# Altium footprint library pira-smart-pcblib.PcbLib: 19 footprints (part 1 of 2)
Each footprint in its own frame and in the unit in brackets; x right, y up, seen from the top. Pads: shape width x height; smd on the part's side, far side on the other; paste and mask are expansions set on the pad; w line width, h text height; cw(c..) or ccw(c..) is an arc to the next point about the centre after c.
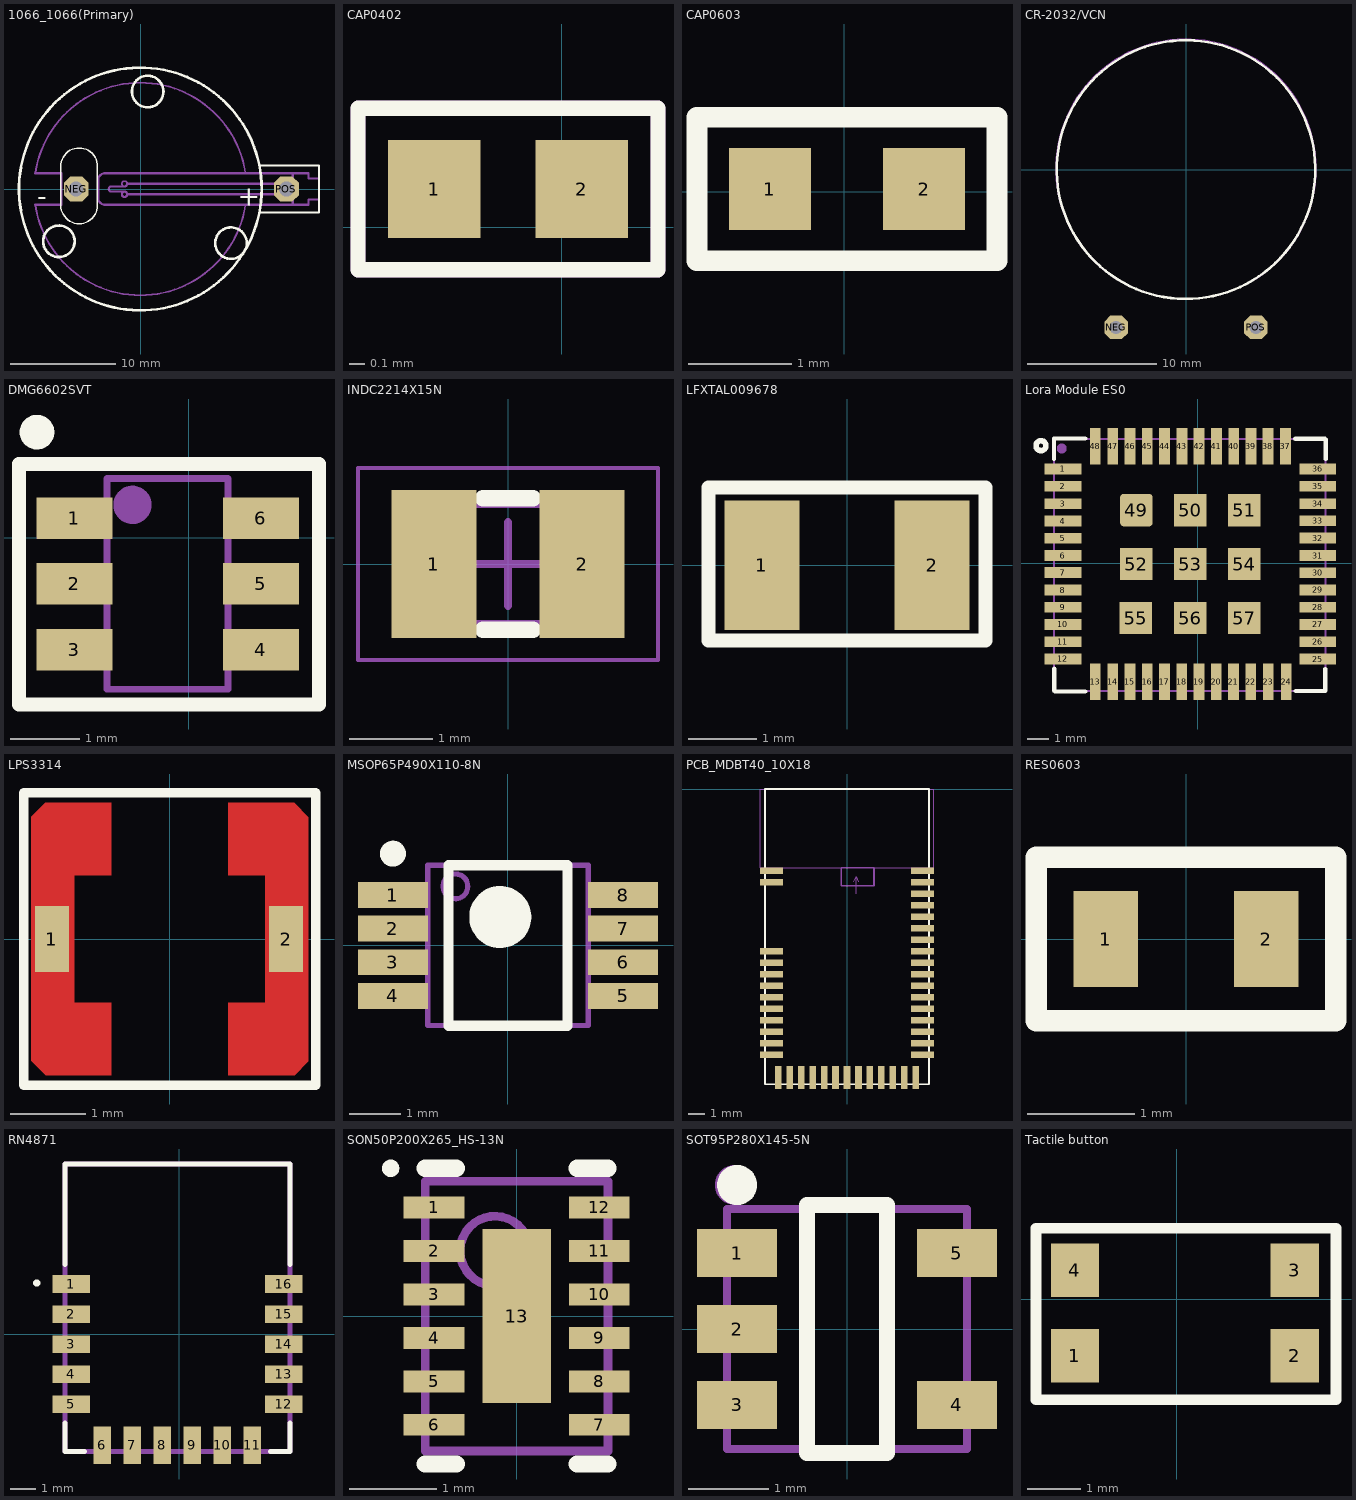
[diagram p0: the footprints below, top view; thin cyan lines are the x and y axes]

## 1066_1066(Primary) [mm]
pads (2):
  oct 2.35x2.35 hole 1.422: NEG(-6.125,0) POS(13.875,0)
Top Overlay:
  circle w0.254: c-0.025,0 r11.543
  circle w0.254: c0.675,9.275 r1.5
  circle w0.254: c-7.775,-4.975 r1.5
  circle w0.254: c8.6,-5.15 r1.5
  lines w0.127: -7.6,-1.75 -7.6,2.15 cw(c-5.85,2.15) -4.1,2.15 -4.1,-1.775 ; -7.6,-1.55 ccw(c-5.85,-1.55) -4.1,-1.55
  lines w0.203: 11.475,-2.23 16.975,-2.23 16.975,2.23 11.475,2.23
  text "-" at -9.816,-1.598 h1.88
  text "+" at 9.256,-1.597 h1.88
Mechanical 1:
  circle w0.203: c-1.529,-0.502 r0.254
  circle w0.127: c-1.529,0.502 r0.254
  lines w0.127: -3.025,-0.004 -3.025,0.004 ; -1.275,-0.504 -1.275,-0.5
  lines w0.178: -10.012,-1.582 ccw(c-0.025,0) 9.962,-1.582 ; -10.012,1.582 cw(c-0.025,0) 9.962,1.582
  lines w0.203: -10.025,-1.5 -7.525,-1.5 -7.525,1.5 -10.025,1.5 ; -3.025,-0.004 cw(c-2.771,-0.004) -2.771,0.25 -1.529,0.25 ccw(c-1.529,0.504) -1.275,0.5 ; -3.025,0.004 ccw(c-2.771,0.004) -2.771,-0.25 -1.529,-0.25 cw(c-1.529,-0.504) -1.275,-0.5 ; -1.275,-0.5 14.475,-0.5 ; -1.275,0.504 -1.275,0.5 14.475,0.5 ; 16.975,-1 15.975,-1 15.975,-1.5 14.475,-1.5 ; 16.975,1 15.975,1 15.975,1.5 14.475,1.5 ; 14.475,-1.5 9.975,-1.5 -3.39,-1.5 cw(c-3.39,-0.865) -4.025,-0.865 -4.025,0.865 cw(c-3.39,0.865) -3.39,1.5 9.975,1.5 14.475,1.5 ; 14.475,-1.5 14.475,-0.5 ; 14.475,-0.5 14.475,0.5 ; 14.475,0.5 14.475,1.5

## CAP0402 [mm]
pads (2):
  rect 0.6x0.64 smd: 1(-0.83,0.25) 2(0.13,0.25)
Top Overlay:
  lines w0.1: -1.325,-0.275 0.625,-0.275 0.625,0.775 -1.325,0.775 -1.325,-0.275
Mechanical 29:
  lines w0.1: -1.325,-0.275 -1.325,0.775 0.625,0.775 0.625,-0.275 -1.325,-0.275
  text "'.Designator'" at -1.05,-0.075 h0.6
3D body "CAPC1005X05N.step": height 0.45, standoff 0, extent -0.9,-0.05 0.2,0.55

## CAP0603 [mm]
pads (2):
  rect 0.8x0.8 smd: 1(-0.725,0.025) 2(0.775,0.025)
Top Overlay:
  lines w0.2: -1.435,-0.673 1.486,-0.673 1.486,0.724 -1.435,0.724 -1.435,-0.673
Mechanical 29:
  lines w0.1: -1.435,-0.673 -1.435,0.724 1.486,0.724 1.486,-0.673 -1.435,-0.673
  text ".Designator" at -0.927,-0.229 h0.6
3D body "C_SMD_0603.step": height 0.9, standoff 0, extent -0.775,-0.375 0.825,0.425

## CR-2032/VCN [mm]
pads (2):
  oct 1.8x1.8 hole 1: NEG(-5.4,-12.2) POS(5.4,-12.2)
Top Overlay:
  lines w0.2: 9.999,0.198 cw(c0,0) 9.999,0.2
Mechanical 29:
  circle w0.1: c0,0.05 r10.05
  text "'.Designator'" at -8,-0.2 h1.52
3D body "User Library-CR2032-VCN.STEP": height 4.12, standoff 0.07, extent -9.96,-16.37 10.06,10.15

## DMG6602SVT [mm]
pads (6):
  rect 1.1x0.6 smd: 1(-1.655,0.28) 2(-1.655,-0.67) 3(-1.655,-1.62) 4(1.045,-1.62) 5(1.045,-0.67) 6(1.045,0.28)
Top Overlay:
  circle w0.25: c-2.195,1.525 r0.125
  lines w0.2: -2.455,-2.415 1.885,-2.415 1.885,1.065 -2.455,1.065 -2.455,-2.415
Mechanical 29:
  circle w0.3: c-0.813,0.473 r0.127
  lines w0.1: -1.18,-2.195 -1.18,0.855 0.57,0.855 0.57,-2.195 -1.18,-2.195
  text ".Designator" at 0.203,-1.813 h0.8
3D body "TSOT26.step": height 1, standoff 0, extent -1.805,-2.22 1.195,0.88

## INDC2214X15N [mm] "Chip Inductor, 2-Leads, Body 2.20x1.45mm, IPC Medium Density"
height 1.5
pads (2):
  rect 1.02x1.78 smd: 1(-0.89,0) 2(0.89,0)
Top Overlay:
  lines w0.2: -0.3,-0.79 0.3,-0.79 ; -0.3,0.79 0.3,0.79
Mechanical 15:
  lines w0.05: -1.8,-1.15 1.8,-1.15 1.8,1.15 -1.8,1.15 -1.8,-1.15
  lines w0.1: -0.5,0 0.5,0 ; 0,-0.5 0,0.5
Mechanical 29:
  lines w0.1: -1.1,-0.725 1.1,-0.725 1.1,0.725 -1.1,0.725 -1.1,-0.725
  text "'.Designator'" at -1,-0.25 h0.5
3D body "Coilcraft-PFL2015.STEP": height 1.49, standoff -0.01, extent -1.1,-0.725 1.1,0.725

## LFXTAL009678 [mm]
pads (2):
  rect 1.1x1.9 smd: 1(-1.25,0) 2(1.25,0)
Top Overlay:
  lines w0.2: -2.032,-1.1 2.032,-1.1 2.032,1.143 -2.032,1.143 -2.032,-1.1
Mechanical 29:
  lines w0.1: -2.032,-1.1 2.032,-1.1 2.032,1.1 -2.032,1.1 -2.032,-1.1
  text ".Designator" at -1.3,-0.5 h1.1
3D body: height 0.9, standoff 0, extent -1.651,-0.889 1.651,0.889

## Lora Module ES0 [mm]
pads (57):
  rect 1.7x0.5 smd paste-5: 1(-6.24,4.375) 2(-6.24,3.575) 3(-6.24,2.765) 4(-6.24,1.965) 5(-6.24,1.165) 6(-6.24,0.365) 7(-6.24,-0.425) 8(-6.24,-1.235) 9(-6.24,-2.035) 10(-6.24,-2.825) 11(-6.24,-3.635) 12(-6.24,-4.425) 25(5.562,-4.43) 26(5.562,-3.629) 27(5.562,-2.827) 28(5.562,-2.03) 29(5.562,-1.23) 30(5.562,-0.43) 31(5.56,0.365) 32(5.56,1.175) 33(5.56,1.975) 34(5.56,2.765) 35(5.56,3.575) 36(5.56,4.375)
  rect 0.5x1.7 smd paste-5: 13(-4.74,-5.48) 14(-3.938,-5.48) 15(-3.138,-5.48) 16(-2.338,-5.48) 17(-1.538,-5.48) 18(-0.738,-5.48) 19(0.062,-5.48) 20(0.862,-5.479) 21(1.662,-5.479) 22(2.462,-5.48) 23(3.269,-5.48) 24(4.11,-5.48) 37(4.07,5.425) 38(3.26,5.425) 39(2.47,5.425) 40(1.67,5.425) 41(0.87,5.425) 42(0.07,5.425) 43(-0.73,5.425) 44(-1.53,5.425) 45(-2.33,5.425) 46(-3.13,5.425) 47(-3.93,5.425) 48(-4.74,5.425)
  rrect20% 1.5x1.5 smd: 49(-2.838,2.47)
  rect 1.5x1.5 smd: 50(-0.338,2.47) 51(2.162,2.47) 52(-2.838,-0.03) 53(-0.338,-0.03) 54(2.162,-0.03) 55(-2.863,-2.53) 56(-0.338,-2.53) 57(2.162,-2.53)
Top Overlay:
  circle w0.254: c-7.26,5.455 r0.23
  lines w0.2: -6.66,4.835 -6.66,5.775 -6.65,5.785 -5.21,5.785 ; -6.65,-4.885 -6.65,-5.895 -6.61,-5.935 -5.21,-5.935 ; 4.53,5.775 5.9,5.775 5.93,5.745 5.93,4.835 ; 4.55,-5.915 5.9,-5.915 5.92,-5.895 5.92,-4.895
Top Paste:
  rectangle: -6.35,4.125 -5.39,4.625
  rectangle: -6.35,3.335 -5.4,3.825
  rectangle: -6.35,2.525 -5.4,3.015
  rectangle: -6.35,1.725 -5.4,2.215
  rectangle: -6.35,0.925 -5.4,1.415
  rectangle: -6.35,0.125 -5.4,0.615
  rectangle: -6.35,-0.675 -5.4,-0.185
  rectangle: -6.35,-1.475 -5.4,-0.985
  rectangle: -6.35,-2.275 -5.4,-1.785
  rectangle: -6.35,-3.075 -5.4,-2.585
  rectangle: -6.35,-3.875 -5.4,-3.385
  rectangle: -6.35,-4.675 -5.4,-4.185
  region: -4.5,-5.585 -4.5,-4.635 -4.99,-4.635 -4.99,-5.585
  region: -3.7,-5.585 -3.7,-4.635 -4.19,-4.635 -4.19,-5.585
  region: -2.89,-5.585 -2.89,-4.635 -3.38,-4.635 -3.38,-5.585
  region: -2.09,-5.585 -2.09,-4.635 -2.58,-4.635 -2.58,-5.585
  region: -1.3,-5.585 -1.3,-4.635 -1.79,-4.635 -1.79,-5.585
  region: -0.5,-5.585 -0.5,-4.635 -0.99,-4.635 -0.99,-5.585
  region: 0.3,-5.585 0.3,-4.635 -0.19,-4.635 -0.19,-5.585
  region: 1.1,-5.585 1.1,-4.635 0.61,-4.635 0.61,-5.585
  region: 1.9,-5.585 1.9,-4.635 1.41,-4.635 1.41,-5.585
  region: 2.7,-5.585 2.7,-4.635 2.21,-4.635 2.21,-5.585
  region: 3.51,-5.585 3.51,-4.635 3.02,-4.635 3.02,-5.585
  region: 4.35,-5.585 4.35,-4.635 3.86,-4.635 3.86,-5.585
  rectangle: 4.71,4.115 5.67,4.615
  rectangle: 4.71,3.315 5.67,3.815
  rectangle: 4.71,2.515 5.67,3.015
  rectangle: 4.71,1.715 5.67,2.215
  rectangle: 4.71,0.915 5.67,1.415
  rectangle: 4.71,0.115 5.67,0.615
  rectangle: 4.71,-0.685 5.67,-0.185
  rectangle: 4.71,-1.485 5.67,-0.985
  rectangle: 4.71,-2.285 5.67,-1.785
  rectangle: 4.71,-3.085 5.67,-2.585
  rectangle: 4.71,-3.885 5.67,-3.385
  rectangle: 4.71,-4.685 5.67,-4.185
  region: -4.5,4.575 -4.5,5.525 -4.99,5.525 -4.99,4.575
  region: -3.69,4.585 -3.69,5.535 -4.18,5.535 -4.18,4.585
  region: -2.89,4.585 -2.89,5.535 -3.38,5.535 -3.38,4.585
  region: -2.09,4.585 -2.09,5.535 -2.58,5.535 -2.58,4.585
  region: -1.29,4.585 -1.29,5.535 -1.78,5.535 -1.78,4.585
  region: -0.5,4.585 -0.5,5.535 -0.99,5.535 -0.99,4.585
  region: 0.3,4.585 0.3,5.535 -0.19,5.535 -0.19,4.585
  region: 1.1,4.585 1.1,5.535 0.61,5.535 0.61,4.585
  region: 1.9,4.585 1.9,5.535 1.41,5.535 1.41,4.585
  region: 2.7,4.585 2.7,5.535 2.21,5.535 2.21,4.585
  region: 3.5,4.585 3.5,5.535 3.01,5.535 3.01,4.585
  region: 4.31,4.585 4.31,5.535 3.82,5.535 3.82,4.585
Mechanical 29:
  circle w0.254: c-6.3,5.325 r0.1
  lines w0.1: -6.65,-5.917 -6.65,5.767 5.923,5.767 5.923,-5.917 -6.65,-5.917
  text "'.Designator'" at -4.364,0.179 h1
3D body "CMWX1ZZABZ.STEP": height 1.76, standoff 0, extent -6.63,-5.875 5.87,5.725

## LPS3314 [mm]
pads (2):
  rect 0.45x0.881 smd: 1(-1.575,0) 2(1.55,0)
Top Layer:
  region: -1.85,-1.625 -1.85,1.634 -1.666,1.818 -0.781,1.818 -0.781,0.85 -1.275,0.85 -1.275,-0.85 -0.781,-0.85 -0.781,-1.818 -1.657,-1.818
  region: 0.781,-1.818 0.781,-0.85 1.275,-0.85 1.275,0.85 0.781,0.85 0.781,1.818 1.657,1.818 1.85,1.625 1.85,-1.634 1.666,-1.818
Top Overlay:
  lines w0.127: -1.95,-1.95 -1.95,1.95 1.95,1.95 1.95,-1.95 -1.95,-1.95
3D body "Coilcraft-LPS3314.STEP": height 1.4, standoff 0, extent -1.7,-1.7 1.7,1.7

## MSOP65P490X110-8N [mm] "TSOP, 8-Leads, Body 3.00x3.00mm, Pitch 0.65mm, IPC Medium Density"
height 1.1
pads (8):
  rect 1.35x0.5 smd: 1(-2.225,0.975) 2(-2.225,0.325) 3(-2.225,-0.325) 4(-2.225,-0.975) 5(2.225,-0.975) 6(2.225,-0.325) 7(2.225,0.325) 8(2.225,0.975)
Top Overlay:
  circle w0.6: c-0.15,0.55 r0.3
  circle w0.25: c-2.225,1.775 r0.125
  lines w0.2: -1.15,-1.55 1.15,-1.55 1.15,1.55 -1.15,1.55 -1.15,-1.55
Mechanical 29:
  circle w0.1: c-1.016,1.143 r0.239
  lines w0.1: -1.55,-1.55 1.55,-1.55 1.55,1.55 -1.55,1.55 -1.55,-1.55
  text "'.Designator'" at -1.143,-0.381 h0.8
3D body "TSOP65P490X110-8N.step": height 1.1, standoff 0, extent -2.45,-1.55 2.45,1.55

## PCB_MDBT40_10X18 [mm]
pads (42):
  rect 1.4x0.4 smd: 1(-4.6,-5) 2(-4.6,-5.7) 3(-4.6,-9.9) 4(-4.6,-10.6) 5(-4.6,-11.3) 6(-4.6,-12) 7(-4.6,-12.7) 8(-4.6,-13.4) 9(-4.6,-14.1) 10(-4.6,-14.8) 11(-4.6,-15.5) 12(-4.6,-16.2) 26(4.6,-16.2) 27(4.6,-15.5) 28(4.6,-14.8) 29(4.6,-14.1) 30(4.6,-13.4) 31(4.6,-12.7) 32(4.6,-12) 33(4.6,-11.3) 34(4.6,-10.6) 35(4.6,-9.9) 36(4.6,-9.2) 37(4.6,-8.5) 38(4.6,-7.8) 39(4.6,-7.1) 40(4.6,-6.4) 41(4.6,-5.7) 42(4.6,-5)
  rect 0.4x1.4 smd: 13(-4.2,-17.6) 14(-3.5,-17.6) 15(-2.8,-17.6) 16(-2.1,-17.6) 17(-1.4,-17.6) 18(-0.7,-17.6) 19(0,-17.6) 20(0.7,-17.6) 21(1.4,-17.6) 22(2.1,-17.6) 23(2.8,-17.6) 24(3.5,-17.6) 25(4.2,-17.6)
Top Overlay:
  lines w0.1: -5,-18 5,-18 5,0 0,0 -5,0 -5,-18
Mechanical 2:
  lines w0.05: -5.3,-4.8 -5.3,0 5.3,0 5.3,-4.8 1.65,-4.8 -0.35,-4.8 -5.3,-4.8
  text "No ground pad" at -2.54,-2.54 h0.45
Mechanical 3:
  lines w0.05: 0.4,-5.65 0.55,-5.35 ; 0.55,-6.375 0.55,-5.35 ; 0.7,-5.65 0.55,-5.35
  lines w0.1: -0.35,-5.9 -0.35,-4.8 1.65,-4.8 1.65,-5.9 -0.35,-5.9
  text "Toplayer no ground pad" at -3.1,-6.725 h0.3

## RES0603 [mm]
pads (2):
  rect 0.6x0.9 smd: 1(-0.75,0) 2(0.75,0)
Top Overlay:
  lines w0.2: -1.397,-0.762 -1.397,0.762 1.397,0.762 1.397,-0.762 -1.397,-0.762
Mechanical 29:
  lines w0.1: -1.4,-0.75 -1.4,0.75 1.4,0.75 1.4,-0.75 -1.4,-0.75
  text ".Designator" at -1.1,-0.4 h0.6
3D body "R0603.step": height 0.8, standoff 0, extent -0.8,-0.42 0.8,0.42

## RN4871 [mm]
pads (16):
  rect 1.5x0.7 smd: 1(-4.318,2.02) 2(-4.318,0.82) 3(-4.318,-0.38) 4(-4.318,-1.58) 5(-4.318,-2.78) 12(4.182,-2.78) 13(4.182,-1.58) 14(4.182,-0.38) 15(4.182,0.82) 16(4.182,2.02)
  rect 0.7x1.5 smd: 6(-3.068,-4.43) 7(-1.868,-4.43) 8(-0.668,-4.43) 9(0.532,-4.43) 10(1.732,-4.43) 11(2.932,-4.43)
Top Overlay:
  circle w0.2: c-5.695,2.061 r0.045
  lines w0.2: -4.568,-3.541 -4.568,-4.68 -3.783,-4.68 ; -4.568,2.795 -4.568,6.82 4.432,6.82 4.432,2.795 ; 3.647,-4.68 4.432,-4.68 4.432,-3.541
Mechanical 29:
  lines w0.2: -4.568,-4.68 4.432,-4.68 4.432,6.82 -4.568,6.82 -4.568,-4.68
  text "'.Designator'" at -2.85,2.6 h1.52
3D body "User Library-Module_Microchip_RN4871.STEP": height 2.1, standoff 0, extent -4.55,-4.675 4.45,6.825

## SON50P200X265_HS-13N [mm] "SON, 12-Leads, Body 3.00x2.00mm, Pitch 0.50mm, Thermal Pad 2.00x0.79mm, IPC Medium Density"
height 2.65
pads (13):
  rect 0.7x0.25 smd: 1(-0.95,1.25) 2(-0.95,0.75) 3(-0.95,0.25) 4(-0.95,-0.25) 5(-0.95,-0.75) 6(-0.95,-1.25) 7(0.95,-1.25) 8(0.95,-0.75) 9(0.95,-0.25) 10(0.95,0.25) 11(0.95,0.75) 12(0.95,1.25)
  rect 0.79x2 smd: 13(0,0)
Top Overlay:
  circle w0.1: c-1.45,1.7 r0.05
  lines w0.2: -1.05,-1.7 -0.695,-1.7 ; -1.05,1.7 -0.695,1.7 ; 0.695,-1.7 1.05,-1.7 ; 0.695,1.7 1.05,1.7
Mechanical 29:
  circle w0.1: c-0.25,0.75 r0.4
  lines w0.1: -1.05,-1.55 1.05,-1.55 1.05,1.55 -1.05,1.55 -1.05,-1.55
  text "'.Designator'" at -0.889,-0.762 h0.8
3D body "SON50P200X265_HS-13N.step": height 2.65, standoff 0, extent -1.13,-1.55 1.13,1.55

## SOT95P280X145-5N [mm] "SOT23, 5-Leads, Body 2.90x2.80mm, Pitch 0.95mm, IPC Medium Density"
height 1.45
pads (5):
  rect 1x0.6 smd: 1(-1.375,0.95) 2(-1.375,0) 3(-1.375,-0.95) 4(1.375,-0.95) 5(1.375,0.95)
Top Overlay:
  circle w0.25: c-1.375,1.8 r0.125
  lines w0.2: -0.5,-1.55 0.5,-1.55 0.5,1.55 -0.5,1.55 -0.5,-1.55
Mechanical 29:
  circle w0.3: c-1.4,1.8 r0.1
  lines w0.1: -1.5,-1.5 -1.5,1.5 1.5,1.5 1.5,-1.5 -1.5,-1.5
  text "'.Designator'" at -0.475,-0.375 h0.6
3D body "SOT95P280X145-5N.step": height 1.45, standoff 0, extent -1.5,-1.525 1.5,1.525

## Tactile button [mm]
pads (4):
  rect 0.9x1 smd: 1(-1.897,-1.055) 2(2.203,-1.055) 3(2.203,0.545) 4(-1.897,0.545)
Top Overlay:
  lines w0.2: -2.625,-1.875 2.975,-1.875 2.975,1.325 -2.625,1.325 -2.625,-1.875
Mechanical 29:
  lines w0.1: -2.625,-1.875 2.975,-1.875 2.975,1.325 -2.625,1.325 -2.625,-1.875
  text "'.Designator'" at -1.225,-0.475 h1
3D body "User Library-Switch-CK-KMR2.STEP": height 2.1, standoff 0, extent -2.145,-1.765 2.455,1.235